# Altium integrated library Analog Devices Data Converters Digital-to-Analog Converters.IntLib: 2231 symbols (part 43 of 181)
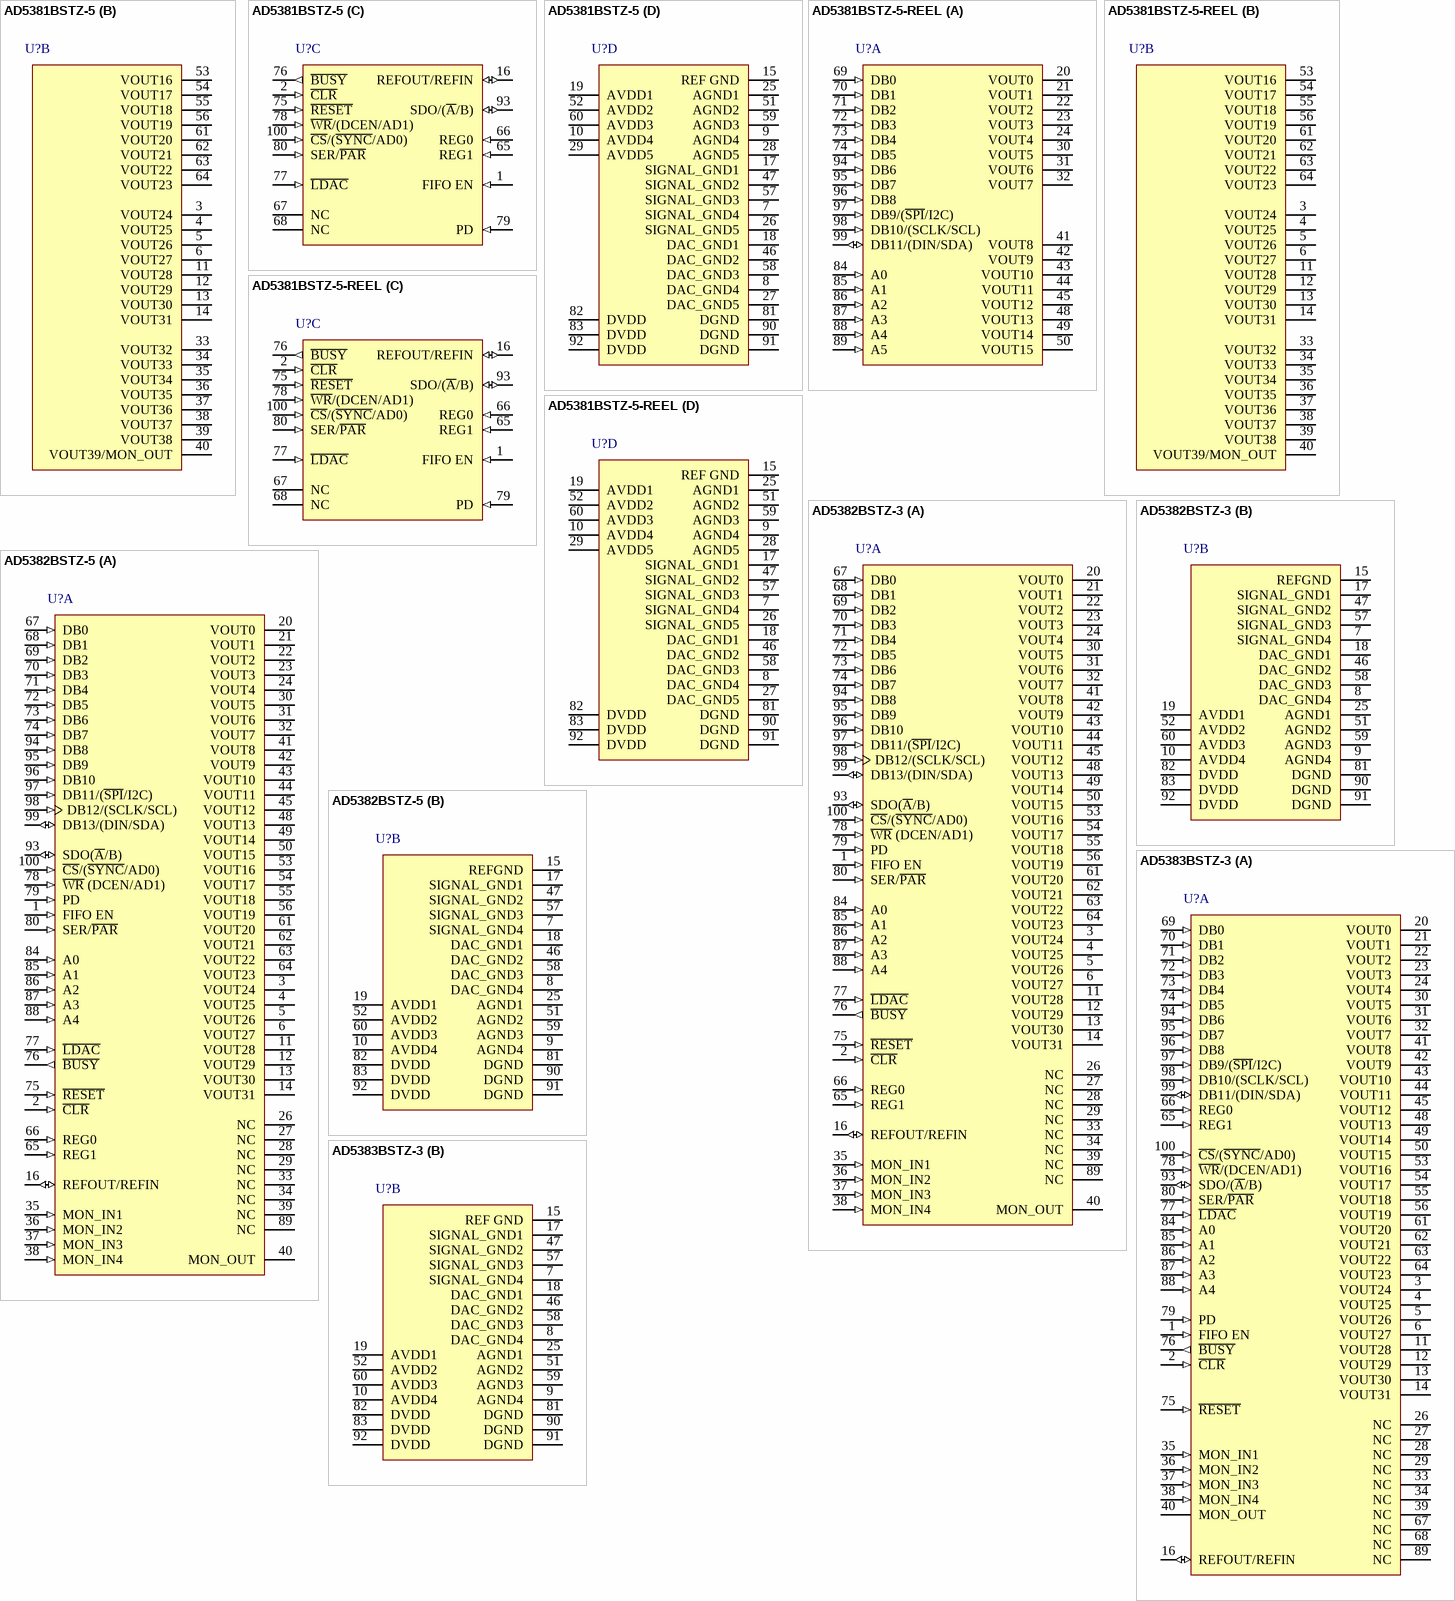
[diagram p156: symbols AD5381BSTZ-5 to AD5383BSTZ-3]

## AD5382BSTZ-3
designator U?
32 Channel 14-Bit Single-Supply Voltage Output Digital-to-Analog Converter, 3 V, -40 to +85 degC, ST-100-1, Pb-Free, Tray; Generic Part Number: AD5382; Manufacturer: Analog Devices; PartNumber: AD5382BSTZ-3; # DAC Outputs: 32; Max V+: 5.5V; Resolution (Bits): 14; Settling Time: 8µs; Single Supply: Yes; DatasheetVersion: Rev.B; PackageVersion: Jul-2007; PackageReference: ST-100-1; PackageDescription: 100-Lead Low Profile Quad Flat Package, 14 x 14 x 1.4 mm Body [LQFP]; Supplier 1: Digi-Key; Supplier Part Number 1: AD5382BSTZ-3-ND; Supplier 2: Mouser; Supplier Part Number 2: 584-AD5382BSTZ-3; Packing: Tray; RoHS: Y; Mounting Technology: Surface Mount; Code_JEDEC: MS-026-BED; ComponentLink1Description: Manufacturer URL; ComponentLink1URL: http://www.analog.com/en/index.html; ComponentLink2Description: Datasheet; ComponentLink2URL: http://www.analog.com/static/imported-files/data_sheets/AD5382.pdf; ComponentLink3Description: Package Specification; ComponentLink3URL: http://www.analog.com/static/imported-files/packages/92490886ST_100_1.pdf; ComponentLink4Description: Product URL; ComponentLink4URL: http://www.analog.com/en/digital-to-analog-converters/da-converters/ad5382/products/product.html; ComponentLink5Description: Reference Design URL; ComponentLink5URL: http://www.analog.com/en/digital-to-analog-converters/da-converters/ad5382/products/product.html#prod_cross_sell
footprint ST-100-1_V (Thin QFP, 100-Leads, Body 14x14mm, Pitch 0.5mm, AD Recommended)
footprint ST-100-1_N (Thin QFP, 100-Leads, Body 14x14mm, Pitch 0.5mm, IPC Medium Density)
footprint ST-100-1_L (Thin QFP, 100-Leads, Body 14x14mm, Pitch 0.5mm, IPC High Density)
footprint ST-100-1_M (Thin QFP, 100-Leads, Body 14x14mm, Pitch 0.5mm, IPC Low Density)
part A pins: 1 FIFO EN (in) "FIFO Enable (Level Sensitive, Active High). When connected to DVDD, the internal FIFO is enabled, allowing the user to write to the device at full speed. FIFO is available only in parallel interface mode. The status of the (See Datasheet)", 2 ~{CLR} (in) "Asynchronous Clear Input. The CLR input is falling edge sensitive. When C\L\R\ is activated, all channels are updated with the data in the C\L\R\ code register. B\U\S\Y\ is low for 35 us while all channels are being updated (See Datasheet)", 3 VOUT24 (hiz) "Buffered Analog Outputs for Channel 24. Each analog output is driven by a rail-to-rail output amplifier operating at a gain of 2. Each output is capable of driving an output load of 5 k ohm to ground. Typical output (See Datasheet)", 4 VOUT25 (hiz) "Buffered Analog Outputs for Channel 25. Each analog output is driven by a rail-to-rail output amplifier operating at a gain of 2. Each output is capable of driving an output load of 5 k ohm to ground. Typical output (See Datasheet)", 5 VOUT26 (hiz) "Buffered Analog Outputs for Channel 26. Each analog output is driven by a rail-to-rail output amplifier operating at a gain of 2. Each output is capable of driving an output load of 5 k ohm to ground. Typical output (See Datasheet)", 6 VOUT27 (hiz) "Buffered Analog Outputs for Channel 27. Each analog output is driven by a rail-to-rail output amplifier operating at a gain of 2. Each output is capable of driving an output load of 5 k ohm to ground. Typical output (See Datasheet)", 11 VOUT28 (hiz) "Buffered Analog Outputs for Channel 28. Each analog output is driven by a rail-to-rail output amplifier operating at a gain of 2. Each output is capable of driving an output load of 5 k ohm to ground. Typical output (See Datasheet)", 12 VOUT29 (hiz) "Buffered Analog Outputs for Channel 29. Each analog output is driven by a rail-to-rail output amplifier operating at a gain of 2. Each output is capable of driving an output load of 5 k ohm to ground. Typical output (See Datasheet)", 13 VOUT30 (hiz) "Buffered Analog Outputs for Channel 30. Each analog output is driven by a rail-to-rail output amplifier operating at a gain of 2. Each output is capable of driving an output load of 5 k ohm to ground. Typical output (See Datasheet)", 14 VOUT31 (hiz) "Buffered Analog Outputs for Channel 31. Each analog output is driven by a rail-to-rail output amplifier operating at a gain of 2. Each output is capable of driving an output load of 5 k ohm to ground. Typical output (See Datasheet)", 16 REFOUT/REFIN (io) "Reference Output when the Internal Reference is Selected. The AD5382 contains a common REFOUT/REFIN pin. If the application requires an external reference, it can be applied to this pin, and the internal reference can be (See Datasheet)", 20 VOUT0 (hiz) "Buffered Analog Outputs for Channel 0. Each analog output is driven by a rail-to-rail output amplifier operating at a gain of 2. Each output is capable of driving an output load of 5 k ohm to ground. Typical output impedance (See Datasheet)", 21 VOUT1 (hiz) "Buffered Analog Outputs for Channel 1. Each analog output is driven by a rail-to-rail output amplifier operating at a gain of 2. Each output is capable of driving an output load of 5 k ohm to ground. Typical output impedance (See Datasheet)", 22 VOUT2 (hiz) "Buffered Analog Outputs for Channel 2. Each analog output is driven by a rail-to-rail output amplifier operating at a gain of 2. Each output is capable of driving an output load of 5 k ohm to ground. Typical output impedance (See Datasheet)", 23 VOUT3 (hiz) "Buffered Analog Outputs for Channel 3. Each analog output is driven by a rail-to-rail output amplifier operating at a gain of 2. Each output is capable of driving an output load of 5 k ohm to ground. Typical output impedance (See Datasheet)", 24 VOUT4 (hiz) "Buffered Analog Outputs for Channel 4. Each analog output is driven by a rail-to-rail output amplifier operating at a gain of 2. Each output is capable of driving an output load of 5 k ohm to ground. Typical output impedance (See Datasheet)", 26 NC "No Connect. The user is advised not to connect any signals to these pins.", 27 NC "No Connect. The user is advised not to connect any signals to these pins.", 28 NC "No Connect. The user is advised not to connect any signals to these pins.", 29 NC "No Connect. The user is advised not to connect any signals to these pins.", 30 VOUT5 (hiz) "Buffered Analog Outputs for Channel 5. Each analog output is driven by a rail-to-rail output amplifier operating at a gain of 2. Each output is capable of driving an output load of 5 k ohm to ground. Typical output impedance (See Datasheet)", 31 VOUT6 (hiz) "Buffered Analog Outputs for Channel 6. Each analog output is driven by a rail-to-rail output amplifier operating at a gain of 2. Each output is capable of driving an output load of 5 k ohm to ground. Typical output impedance (See Datasheet)", 32 VOUT7 (hiz) "Buffered Analog Outputs for Channel 7. Each analog output is driven by a rail-to-rail output amplifier operating at a gain of 2. Each output is capable of driving an output load of 5 k ohm to ground. Typical output impedance (See Datasheet)", 33 NC "No Connect. The user is advised not to connect any signals to these pins.", 34 NC "No Connect. The user is advised not to connect any signals to these pins.", 35 MON_IN1 (in) "Monitor Input Pin. The AD5382 contains four monitor input pins that allow the user to connect input signals, within the maximum ratings of the device, to these pins for monitoring purposes. Any of the signals applied to the (See Datasheet)", 36 MON_IN2 (in) "Monitor Input Pin. The AD5382 contains four monitor input pins that allow the user to connect input signals, within the maximum ratings of the device, to these pins for monitoring purposes. Any of the signals applied to the (See Datasheet)", 37 MON_IN3 (in) "Monitor Input Pin. The AD5382 contains four monitor input pins that allow the user to connect input signals, within the maximum ratings of the device, to these pins for monitoring purposes. Any of the signals applied to the (See Datasheet)", 38 MON_IN4 (in) "Monitor Input Pin. The AD5382 contains four monitor input pins that allow the user to connect input signals, within the maximum ratings of the device, to these pins for monitoring purposes. Any of the signals applied to the (See Datasheet)", 39 NC "No Connect. The user is advised not to connect any signals to these pins.", 40 MON_OUT (hiz) "Monitor Output. When the monitor function is enabled, this pin acts as the output of a 36-to-1 channel multiplexer that can be programmed to multiplex one of Channels 0 to 31 or any of the monitor input pins (MON_IN1 to (See Datasheet)", 41 VOUT8 (hiz) "Buffered Analog Outputs for Channel 8. Each analog output is driven by a rail-to-rail output amplifier operating at a gain of 2. Each output is capable of driving an output load of 5 k ohm to ground. Typical output impedance (See Datasheet)", 42 VOUT9 (hiz) "Buffered Analog Outputs for Channel 9. Each analog output is driven by a rail-to-rail output amplifier operating at a gain of 2. Each output is capable of driving an output load of 5 k ohm to ground. Typical output impedance (See Datasheet)", 43 VOUT10 (hiz) "Buffered Analog Outputs for Channel 10. Each analog output is driven by a rail-to-rail output amplifier operating at a gain of 2. Each output is capable of driving an output load of 5 k ohm to ground. Typical output (See Datasheet)", 44 VOUT11 (hiz) "Buffered Analog Outputs for Channel 11. Each analog output is driven by a rail-to-rail output amplifier operating at a gain of 2. Each output is capable of driving an output load of 5 k ohm to ground. Typical output (See Datasheet)", 45 VOUT12 (hiz) "Buffered Analog Outputs for Channel 12. Each analog output is driven by a rail-to-rail output amplifier operating at a gain of 2. Each output is capable of driving an output load of 5 k ohm to ground. Typical output (See Datasheet)", 48 VOUT13 (hiz) "Buffered Analog Outputs for Channel 13. Each analog output is driven by a rail-to-rail output amplifier operating at a gain of 2. Each output is capable of driving an output load of 5 k ohm to ground. Typical output (See Datasheet)", 49 VOUT14 (hiz) "Buffered Analog Outputs for Channel 14. Each analog output is driven by a rail-to-rail output amplifier operating at a gain of 2. Each output is capable of driving an output load of 5 k ohm to ground. Typical output (See Datasheet)", 50 VOUT15 (hiz) "Buffered Analog Outputs for Channel 15. Each analog output is driven by a rail-to-rail output amplifier operating at a gain of 2. Each output is capable of driving an output load of 5 k ohm to ground. Typical output (See Datasheet)", 53 VOUT16 (hiz) "Buffered Analog Outputs for Channel 16. Each analog output is driven by a rail-to-rail output amplifier operating at a gain of 2. Each output is capable of driving an output load of 5 k ohm to ground. Typical output (See Datasheet)", 54 VOUT17 (hiz) "Buffered Analog Outputs for Channel 17. Each analog output is driven by a rail-to-rail output amplifier operating at a gain of 2. Each output is capable of driving an output load of 5 k ohm to ground. Typical output (See Datasheet)", 55 VOUT18 (hiz) "Buffered Analog Outputs for Channel 18. Each analog output is driven by a rail-to-rail output amplifier operating at a gain of 2. Each output is capable of driving an output load of 5 k ohm to ground. Typical output (See Datasheet)", 56 VOUT19 (hiz) "Buffered Analog Outputs for Channel 19. Each analog output is driven by a rail-to-rail output amplifier operating at a gain of 2. Each output is capable of driving an output load of 5 k ohm to ground. Typical output (See Datasheet)", 61 VOUT20 (hiz) "Buffered Analog Outputs for Channel 20. Each analog output is driven by a rail-to-rail output amplifier operating at a gain of 2. Each output is capable of driving an output load of 5 k ohm to ground. Typical output (See Datasheet)", 62 VOUT21 (hiz) "Buffered Analog Outputs for Channel 21. Each analog output is driven by a rail-to-rail output amplifier operating at a gain of 2. Each output is capable of driving an output load of 5 k ohm to ground. Typical output (See Datasheet)", 63 VOUT22 (hiz) "Buffered Analog Outputs for Channel 22. Each analog output is driven by a rail-to-rail output amplifier operating at a gain of 2. Each output is capable of driving an output load of 5 k ohm to ground. Typical output (See Datasheet)", 64 VOUT23 (hiz) "Buffered Analog Outputs for Channel 23. Each analog output is driven by a rail-to-rail output amplifier operating at a gain of 2. Each output is capable of driving an output load of 5 k ohm to ground. Typical output (See Datasheet)", 65 REG1 (in) "In parallel interface mode, REG1 is used in decoding the destination registers for the input data. REG1 is decoded to address the input data register, offset register, or gain register for the selected channel and are also (See Datasheet)", 66 REG0 (in) "In parallel interface mode, REG0 is used in decoding the destination registers for the input data. REG0 is decoded to address the input data register, offset register, or gain register for the selected channel and are also (See Datasheet)", 67 DB0 (in) "Parallel Data Bus. DB13 is the MSB and DB0 is the LSB of the input data-word on the AD5382.", 68 DB1 (in) "Parallel Data Bus. DB13 is the MSB and DB0 is the LSB of the input data-word on the AD5382.", 69 DB2 (in) "Parallel Data Bus. DB13 is the MSB and DB0 is the LSB of the input data-word on the AD5382.", 70 DB3 (in) "Parallel Data Bus. DB13 is the MSB and DB0 is the LSB of the input data-word on the AD5382.", 71 DB4 (in) "Parallel Data Bus. DB13 is the MSB and DB0 is the LSB of the input data-word on the AD5382.", 72 DB5 (in) "Parallel Data Bus. DB13 is the MSB and DB0 is the LSB of the input data-word on the AD5382.", 73 DB6 (in) "Parallel Data Bus. DB13 is the MSB and DB0 is the LSB of the input data-word on the AD5382.", 74 DB7 (in) "Parallel Data Bus. DB13 is the MSB and DB0 is the LSB of the input data-word on the AD5382.", 75 ~{RESET} (in) "Asynchronous Digital Reset Input (Falling Edge Sensitive). The function of this pin is equivalent to that of the power-on reset generator. When this pin is taken low, the state machine initiates a reset sequence to digitally (See Datasheet)", 76 ~{BUSY} (out) "Digital CMOS Output. B\U\S\Y\ goes low during internal calculations of the data (x2) loaded to the DAC data register. During this time, the user can continue writing new data to the x1, c, and m registers, but no further (See Datasheet)", 77 ~{LDAC} (in) "Load DAC Logic Input (Active Low). If L\D\A\C\ is taken low while B\U\S\Y\ is inactive (high), the contents of the input registers are transferred to the DAC registers, and the DAC outputs are updated. If L\D\A\C\ is taken (See Datasheet)", 78 ~{WR} (DCEN/AD1) (in) "Multifunction Pin. In parallel interface mode, this pin acts as write enable. In serial interface mode, this pin acts as a daisy-chain enable in SPI mode and as a hardware address pin in I2C mode.Parallel Interface Write (See Datasheet)", 79 PD (in) "Power Down (Level Sensitive, Active High). PD is used to place the device in to low power mode where the device consumes 2 uA AIDD and 20 uA DIDD. In power-down mode, all internal analog circuitry is placed in low power (See Datasheet)", 80 SER/~{PAR} (in) "Interface Select Input. This pin allows the user to select whether the serial or parallel interface is used. If it is tied high, the serial interface mode is selected and Pin 97 (S\P\I\/I2C) is used to determine if the (See Datasheet)", 84 A0 (in) "Parallel Address Inputs. A4 to A0 are decoded to address one of the AD5382’s 40 input channels. Used in conjunction with the REG1 and REG0 pins to determine the destination register for the input data.", 85 A1 (in) "Parallel Address Inputs. A4 to A0 are decoded to address one of the AD5382’s 40 input channels. Used in conjunction with the REG1 and REG0 pins to determine the destination register for the input data.", 86 A2 (in) "Parallel Address Inputs. A4 to A0 are decoded to address one of the AD5382’s 40 input channels. Used in conjunction with the REG1 and REG0 pins to determine the destination register for the input data.", 87 A3 (in) "Parallel Address Inputs. A4 to A0 are decoded to address one of the AD5382’s 40 input channels. Used in conjunction with the REG1 and REG0 pins to determine the destination register for the input data.", 88 A4 (in) "Parallel Address Inputs. A4 to A0 are decoded to address one of the AD5382’s 40 input channels. Used in conjunction with the REG1 and REG0 pins to determine the destination register for the input data.", 89 NC "No Connect. The user is advised not to connect any signals to these pins.", 93 SDO(~{A}/B) (io) "Serial Data Output in Serial Interface Mode. Three-stateable CMOS output. SDO can be used for daisy-chaining a number of devices together. Data is clocked out on SDO on the rising edge of SCLK, and is valid on the falling (See Datasheet)", 94 DB8 (in) "Parallel Data Bus. DB13 is the MSB and DB0 is the LSB of the input data-word on the AD5382.", 95 DB9 (in) "Parallel Data Bus. DB13 is the MSB and DB0 is the LSB of the input data-word on the AD5382.", 96 DB10 (in) "Parallel Data Bus. DB13 is the MSB and DB0 is the LSB of the input data-word on the AD5382.", 97 DB11/(~{SPI}/I2C) (in) "Multifunction Input Pin. In parallel interface mode, this pin acts as DB11 of the parallel input data-word. In serial interface mode, this pin acts as serial interface mode select. When serial interface mode is selected (See Datasheet)", 98 DB12/(SCLK/SCL) (in) "Multifunction Input Pin. In parallel interface mode, this pin acts as DB12 of the parallel input data-word. In serial interface mode, this pin acts as a serial clock input.Serial Interface Mode. In serial interface mode, (See Datasheet)", 99 DB13/(DIN/SDA) (io) "Multifunction Data Input Pin. In parallel interface mode, this pin acts as DB13 of the parallel input data-word.Serial Interface Mode. In serial interface mode, this pin acts as the serial data input. Data must be valid on (See Datasheet)", 100 ~{CS}/(~{SYNC}/AD0) (in) "In parallel interface mode, this pin acts as the chip select input (level sensitive, active low). When low, the AD5382 is selected.In serial interface mode, this is the frame synchronization input signal for the serial (See Datasheet)"
part B pins: 7 SIGNAL_GND4 (power) "Analog Ground Reference Points for Each Group of Eight Output Channels. All SIGNAL_GND pins are tied together internally and should be connected to the AGND plane as close as possible to the AD5382.", 8 DAC_GND4 (power) "Ground Reference point for the Internal 14-Bit DAC. Each group of eight channels contains a DAC_GND pin. These pins shound be connected to the AGND plane.", 9 AGND4 (power) "Analog Ground Reference Point. Each group of eight channels contains an AGND pin. All AGND pins should be connected externally to the AGND plane.", 10 AVDD4 (power) "Analog Supply Pins. Each group of eight channels has a separate AVDD pin. These pins are internally shorted and should be decoupled with a 0.1 uF ceramic capacitor and a 10 uF tantalum capacitor. Operating range for the (See Datasheet)", 15 REFGND (power) "Ground Reference Point for the Internal Reference.", 17 SIGNAL_GND1 (power) "Analog Ground Reference Points for Each Group of Eight Output Channels. All SIGNAL_GND pins are tied together internally and should be connected to the AGND plane as close as possible to the AD5382.", 18 DAC_GND1 (power) "Ground Reference point for the Internal 14-Bit DAC. Each group of eight channels contains a DAC_GND pin. These pins shound be connected to the AGND plane.", 19 AVDD1 (power) "Analog Supply Pins. Each group of eight channels has a separate AVDD pin. These pins are internally shorted and should be decoupled with a 0.1 uF ceramic capacitor and a 10 uF tantalum capacitor. Operating range for the (See Datasheet)", 25 AGND1 (power) "Analog Ground Reference Point. Each group of eight channels contains an AGND pin. All AGND pins should be connected externally to the AGND plane.", 46 DAC_GND2 (power) "Ground Reference point for the Internal 14-Bit DAC. Each group of eight channels contains a DAC_GND pin. These pins shound be connected to the AGND plane.", 47 SIGNAL_GND2 (power) "Analog Ground Reference Points for Each Group of Eight Output Channels. All SIGNAL_GND pins are tied together internally and should be connected to the AGND plane as close as possible to the AD5382.", 51 AGND2 (power) "Analog Ground Reference Point. Each group of eight channels contains an AGND pin. All AGND pins should be connected externally to the AGND plane.", 52 AVDD2 (power) "Analog Supply Pins. Each group of eight channels has a separate AVDD pin. These pins are internally shorted and should be decoupled with a 0.1 uF ceramic capacitor and a 10 uF tantalum capacitor. Operating range for the (See Datasheet)", 57 SIGNAL_GND3 (power) "Analog Ground Reference Points for Each Group of Eight Output Channels. All SIGNAL_GND pins are tied together internally and should be connected to the AGND plane as close as possible to the AD5382.", 58 DAC_GND3 (power) "Ground Reference point for the Internal 14-Bit DAC. Each group of eight channels contains a DAC_GND pin. These pins shound be connected to the AGND plane.", 59 AGND3 (power) "Analog Ground Reference Point. Each group of eight channels contains an AGND pin. All AGND pins should be connected externally to the AGND plane.", 60 AVDD3 (power) "Analog Supply Pins. Each group of eight channels has a separate AVDD pin. These pins are internally shorted and should be decoupled with a 0.1 uF ceramic capacitor and a 10 uF tantalum capacitor. Operating range for the (See Datasheet)", 81 DGND (power) "Ground for All Digital Circuitry.", 82 DVDD (power) "Logic Power Supply. Guaranteed operating range is 2.7 V to 5.5 V. It is recommended that these pins be decoupled with 0.1 uF ceramic and 10 uF tantalum capacitors to DGND.", 83 DVDD (power) "Logic Power Supply. Guaranteed operating range is 2.7 V to 5.5 V. It is recommended that these pins be decoupled with 0.1 uF ceramic and 10 uF tantalum capacitors to DGND.", 90 DGND (power) "Ground for All Digital Circuitry.", 91 DGND (power) "Ground for All Digital Circuitry.", 92 DVDD (power) "Logic Power Supply. Guaranteed operating range is 2.7 V to 5.5 V. It is recommended that these pins be decoupled with 0.1 uF ceramic and 10 uF tantalum capacitors to DGND."

## AD5382BSTZ-5
designator U?
32 Channel 14-Bit Single-Supply Voltage Output Digital-to-Analog Converter, 5 V, -40 to +85 degC, ST-100-1, Pb-Free, Tray; Generic Part Number: AD5382; Manufacturer: Analog Devices; PartNumber: AD5382BSTZ-5; # DAC Outputs: 32; Max V+: 5.5V; Resolution (Bits): 14; Settling Time: 8µs; Single Supply: Yes; DatasheetVersion: Rev.B; PackageVersion: Jul-2007; PackageReference: ST-100-1; PackageDescription: 100-Lead Low Profile Quad Flat Package, 14 x 14 x 1.4 mm Body [LQFP]; Supplier 1: Digi-Key; Supplier Part Number 1: AD5382BSTZ-5-ND; Supplier 2: Farnell; Supplier Part Number 2: 1078364; Supplier 3: Newark; Supplier Part Number 3: 59K4037; Supplier 4: Mouser; Supplier Part Number 4: 584-AD5382BSTZ-5; Packing: Tray; RoHS: Y; Mounting Technology: Surface Mount; Code_JEDEC: MS-026-BED; ComponentLink1Description: Manufacturer URL; ComponentLink1URL: http://www.analog.com/en/index.html; ComponentLink2Description: Datasheet; ComponentLink2URL: http://www.analog.com/static/imported-files/data_sheets/AD5382.pdf; ComponentLink3Description: Package Specification; ComponentLink3URL: http://www.analog.com/static/imported-files/packages/92490886ST_100_1.pdf; ComponentLink4Description: Product URL; ComponentLink4URL: http://www.analog.com/en/digital-to-analog-converters/da-converters/ad5382/products/product.html; ComponentLink5Description: Reference Design URL; ComponentLink5URL: http://www.analog.com/en/digital-to-analog-converters/da-converters/ad5382/products/product.html#prod_cross_sell
footprint ST-100-1_V (Thin QFP, 100-Leads, Body 14x14mm, Pitch 0.5mm, AD Recommended)
footprint ST-100-1_N (Thin QFP, 100-Leads, Body 14x14mm, Pitch 0.5mm, IPC Medium Density)
footprint ST-100-1_L (Thin QFP, 100-Leads, Body 14x14mm, Pitch 0.5mm, IPC High Density)
footprint ST-100-1_M (Thin QFP, 100-Leads, Body 14x14mm, Pitch 0.5mm, IPC Low Density)
part A pins: 1 FIFO EN (in) "FIFO Enable (Level Sensitive, Active High). When connected to DVDD, the internal FIFO is enabled, allowing the user to write to the device at full speed. FIFO is available only in parallel interface mode. The status of the (See Datasheet)", 2 ~{CLR} (in) "Asynchronous Clear Input. The CLR input is falling edge sensitive. When C\L\R\ is activated, all channels are updated with the data in the C\L\R\ code register. B\U\S\Y\ is low for 35 us while all channels are being updated (See Datasheet)", 3 VOUT24 (hiz) "Buffered Analog Outputs for Channel 24. Each analog output is driven by a rail-to-rail output amplifier operating at a gain of 2. Each output is capable of driving an output load of 5 k ohm to ground. Typical output (See Datasheet)", 4 VOUT25 (hiz) "Buffered Analog Outputs for Channel 25. Each analog output is driven by a rail-to-rail output amplifier operating at a gain of 2. Each output is capable of driving an output load of 5 k ohm to ground. Typical output (See Datasheet)", 5 VOUT26 (hiz) "Buffered Analog Outputs for Channel 26. Each analog output is driven by a rail-to-rail output amplifier operating at a gain of 2. Each output is capable of driving an output load of 5 k ohm to ground. Typical output (See Datasheet)", 6 VOUT27 (hiz) "Buffered Analog Outputs for Channel 27. Each analog output is driven by a rail-to-rail output amplifier operating at a gain of 2. Each output is capable of driving an output load of 5 k ohm to ground. Typical output (See Datasheet)", 11 VOUT28 (hiz) "Buffered Analog Outputs for Channel 28. Each analog output is driven by a rail-to-rail output amplifier operating at a gain of 2. Each output is capable of driving an output load of 5 k ohm to ground. Typical output (See Datasheet)", 12 VOUT29 (hiz) "Buffered Analog Outputs for Channel 29. Each analog output is driven by a rail-to-rail output amplifier operating at a gain of 2. Each output is capable of driving an output load of 5 k ohm to ground. Typical output (See Datasheet)", 13 VOUT30 (hiz) "Buffered Analog Outputs for Channel 30. Each analog output is driven by a rail-to-rail output amplifier operating at a gain of 2. Each output is capable of driving an output load of 5 k ohm to ground. Typical output (See Datasheet)", 14 VOUT31 (hiz) "Buffered Analog Outputs for Channel 31. Each analog output is driven by a rail-to-rail output amplifier operating at a gain of 2. Each output is capable of driving an output load of 5 k ohm to ground. Typical output (See Datasheet)", 16 REFOUT/REFIN (io) "Reference Output when the Internal Reference is Selected. The AD5382 contains a common REFOUT/REFIN pin. If the application requires an external reference, it can be applied to this pin, and the internal reference can be (See Datasheet)", 20 VOUT0 (hiz) "Buffered Analog Outputs for Channel 0. Each analog output is driven by a rail-to-rail output amplifier operating at a gain of 2. Each output is capable of driving an output load of 5 k ohm to ground. Typical output impedance (See Datasheet)", 21 VOUT1 (hiz) "Buffered Analog Outputs for Channel 1. Each analog output is driven by a rail-to-rail output amplifier operating at a gain of 2. Each output is capable of driving an output load of 5 k ohm to ground. Typical output impedance (See Datasheet)", 22 VOUT2 (hiz) "Buffered Analog Outputs for Channel 2. Each analog output is driven by a rail-to-rail output amplifier operating at a gain of 2. Each output is capable of driving an output load of 5 k ohm to ground. Typical output impedance (See Datasheet)", 23 VOUT3 (hiz) "Buffered Analog Outputs for Channel 3. Each analog output is driven by a rail-to-rail output amplifier operating at a gain of 2. Each output is capable of driving an output load of 5 k ohm to ground. Typical output impedance (See Datasheet)", 24 VOUT4 (hiz) "Buffered Analog Outputs for Channel 4. Each analog output is driven by a rail-to-rail output amplifier operating at a gain of 2. Each output is capable of driving an output load of 5 k ohm to ground. Typical output impedance (See Datasheet)", 26 NC "No Connect. The user is advised not to connect any signals to these pins.", 27 NC "No Connect. The user is advised not to connect any signals to these pins.", 28 NC "No Connect. The user is advised not to connect any signals to these pins.", 29 NC "No Connect. The user is advised not to connect any signals to these pins.", 30 VOUT5 (hiz) "Buffered Analog Outputs for Channel 5. Each analog output is driven by a rail-to-rail output amplifier operating at a gain of 2. Each output is capable of driving an output load of 5 k ohm to ground. Typical output impedance (See Datasheet)", 31 VOUT6 (hiz) "Buffered Analog Outputs for Channel 6. Each analog output is driven by a rail-to-rail output amplifier operating at a gain of 2. Each output is capable of driving an output load of 5 k ohm to ground. Typical output impedance (See Datasheet)", 32 VOUT7 (hiz) "Buffered Analog Outputs for Channel 7. Each analog output is driven by a rail-to-rail output amplifier operating at a gain of 2. Each output is capable of driving an output load of 5 k ohm to ground. Typical output impedance (See Datasheet)", 33 NC "No Connect. The user is advised not to connect any signals to these pins.", 34 NC "No Connect. The user is advised not to connect any signals to these pins.", 35 MON_IN1 (in) "Monitor Input Pin. The AD5382 contains four monitor input pins that allow the user to connect input signals, within the maximum ratings of the device, to these pins for monitoring purposes. Any of the signals applied to the (See Datasheet)", 36 MON_IN2 (in) "Monitor Input Pin. The AD5382 contains four monitor input pins that allow the user to connect input signals, within the maximum ratings of the device, to these pins for monitoring purposes. Any of the signals applied to the (See Datasheet)", 37 MON_IN3 (in) "Monitor Input Pin. The AD5382 contains four monitor input pins that allow the user to connect input signals, within the maximum ratings of the device, to these pins for monitoring purposes. Any of the signals applied to the (See Datasheet)", 38 MON_IN4 (in) "Monitor Input Pin. The AD5382 contains four monitor input pins that allow the user to connect input signals, within the maximum ratings of the device, to these pins for monitoring purposes. Any of the signals applied to the (See Datasheet)", 39 NC "No Connect. The user is advised not to connect any signals to these pins.", 40 MON_OUT (hiz) "Monitor Output. When the monitor function is enabled, this pin acts as the output of a 36-to-1 channel multiplexer that can be programmed to multiplex one of Channels 0 to 31 or any of the monitor input pins (MON_IN1 to (See Datasheet)", 41 VOUT8 (hiz) "Buffered Analog Outputs for Channel 8. Each analog output is driven by a rail-to-rail output amplifier operating at a gain of 2. Each output is capable of driving an output load of 5 k ohm to ground. Typical output impedance (See Datasheet)", 42 VOUT9 (hiz) "Buffered Analog Outputs for Channel 9. Each analog output is driven by a rail-to-rail output amplifier operating at a gain of 2. Each output is capable of driving an output load of 5 k ohm to ground. Typical output impedance (See Datasheet)", 43 VOUT10 (hiz) "Buffered Analog Outputs for Channel 10. Each analog output is driven by a rail-to-rail output amplifier operating at a gain of 2. Each output is capable of driving an output load of 5 k ohm to ground. Typical output (See Datasheet)", 44 VOUT11 (hiz) "Buffered Analog Outputs for Channel 11. Each analog output is driven by a rail-to-rail output amplifier operating at a gain of 2. Each output is capable of driving an output load of 5 k ohm to ground. Typical output (See Datasheet)", 45 VOUT12 (hiz) "Buffered Analog Outputs for Channel 12. Each analog output is driven by a rail-to-rail output amplifier operating at a gain of 2. Each output is capable of driving an output load of 5 k ohm to ground. Typical output (See Datasheet)", 48 VOUT13 (hiz) "Buffered Analog Outputs for Channel 13. Each analog output is driven by a rail-to-rail output amplifier operating at a gain of 2. Each output is capable of driving an output load of 5 k ohm to ground. Typical output (See Datasheet)", 49 VOUT14 (hiz) "Buffered Analog Outputs for Channel 14. Each analog output is driven by a rail-to-rail output amplifier operating at a gain of 2. Each output is capable of driving an output load of 5 k ohm to ground. Typical output (See Datasheet)", 50 VOUT15 (hiz) "Buffered Analog Outputs for Channel 15. Each analog output is driven by a rail-to-rail output amplifier operating at a gain of 2. Each output is capable of driving an output load of 5 k ohm to ground. Typical output (See Datasheet)", 53 VOUT16 (hiz) "Buffered Analog Outputs for Channel 16. Each analog output is driven by a rail-to-rail output amplifier operating at a gain of 2. Each output is capable of driving an output load of 5 k ohm to ground. Typical output (See Datasheet)", 54 VOUT17 (hiz) "Buffered Analog Outputs for Channel 17. Each analog output is driven by a rail-to-rail output amplifier operating at a gain of 2. Each output is capable of driving an output load of 5 k ohm to ground. Typical output (See Datasheet)", 55 VOUT18 (hiz) "Buffered Analog Outputs for Channel 18. Each analog output is driven by a rail-to-rail output amplifier operating at a gain of 2. Each output is capable of driving an output load of 5 k ohm to ground. Typical output (See Datasheet)", 56 VOUT19 (hiz) "Buffered Analog Outputs for Channel 19. Each analog output is driven by a rail-to-rail output amplifier operating at a gain of 2. Each output is capable of driving an output load of 5 k ohm to ground. Typical output (See Datasheet)", 61 VOUT20 (hiz) "Buffered Analog Outputs for Channel 20. Each analog output is driven by a rail-to-rail output amplifier operating at a gain of 2. Each output is capable of driving an output load of 5 k ohm to ground. Typical output (See Datasheet)", 62 VOUT21 (hiz) "Buffered Analog Outputs for Channel 21. Each analog output is driven by a rail-to-rail output amplifier operating at a gain of 2. Each output is capable of driving an output load of 5 k ohm to ground. Typical output (See Datasheet)", 63 VOUT22 (hiz) "Buffered Analog Outputs for Channel 22. Each analog output is driven by a rail-to-rail output amplifier operating at a gain of 2. Each output is capable of driving an output load of 5 k ohm to ground. Typical output (See Datasheet)", 64 VOUT23 (hiz) "Buffered Analog Outputs for Channel 23. Each analog output is driven by a rail-to-rail output amplifier operating at a gain of 2. Each output is capable of driving an output load of 5 k ohm to ground. Typical output (See Datasheet)", 65 REG1 (in) "In parallel interface mode, REG1 is used in decoding the destination registers for the input data. REG1 is decoded to address the input data register, offset register, or gain register for the selected channel and are also (See Datasheet)", 66 REG0 (in) "In parallel interface mode, REG0 is used in decoding the destination registers for the input data. REG0 is decoded to address the input data register, offset register, or gain register for the selected channel and are also (See Datasheet)", 67 DB0 (in) "Parallel Data Bus. DB13 is the MSB and DB0 is the LSB of the input data-word on the AD5382.", 68 DB1 (in) "Parallel Data Bus. DB13 is the MSB and DB0 is the LSB of the input data-word on the AD5382.", 69 DB2 (in) "Parallel Data Bus. DB13 is the MSB and DB0 is the LSB of the input data-word on the AD5382.", 70 DB3 (in) "Parallel Data Bus. DB13 is the MSB and DB0 is the LSB of the input data-word on the AD5382.", 71 DB4 (in) "Parallel Data Bus. DB13 is the MSB and DB0 is the LSB of the input data-word on the AD5382.", 72 DB5 (in) "Parallel Data Bus. DB13 is the MSB and DB0 is the LSB of the input data-word on the AD5382.", 73 DB6 (in) "Parallel Data Bus. DB13 is the MSB and DB0 is the LSB of the input data-word on the AD5382.", 74 DB7 (in) "Parallel Data Bus. DB13 is the MSB and DB0 is the LSB of the input data-word on the AD5382.", 75 ~{RESET} (in) "Asynchronous Digital Reset Input (Falling Edge Sensitive). The function of this pin is equivalent to that of the power-on reset generator. When this pin is taken low, the state machine initiates a reset sequence to digitally (See Datasheet)", 76 ~{BUSY} (out) "Digital CMOS Output. B\U\S\Y\ goes low during internal calculations of the data (x2) loaded to the DAC data register. During this time, the user can continue writing new data to the x1, c, and m registers, but no further (See Datasheet)", 77 ~{LDAC} (in) "Load DAC Logic Input (Active Low). If L\D\A\C\ is taken low while B\U\S\Y\ is inactive (high), the contents of the input registers are transferred to the DAC registers, and the DAC outputs are updated. If L\D\A\C\ is taken (See Datasheet)", 78 ~{WR} (DCEN/AD1) (in) "Multifunction Pin. In parallel interface mode, this pin acts as write enable. In serial interface mode, this pin acts as a daisy-chain enable in SPI mode and as a hardware address pin in I2C mode.Parallel Interface Write (See Datasheet)", 79 PD (in) "Power Down (Level Sensitive, Active High). PD is used to place the device in to low power mode where the device consumes 2 uA AIDD and 20 uA DIDD. In power-down mode, all internal analog circuitry is placed in low power (See Datasheet)", 80 SER/~{PAR} (in) "Interface Select Input. This pin allows the user to select whether the serial or parallel interface is used. If it is tied high, the serial interface mode is selected and Pin 97 (S\P\I\/I2C) is used to determine if the (See Datasheet)", 84 A0 (in) "Parallel Address Inputs. A4 to A0 are decoded to address one of the AD5382’s 40 input channels. Used in conjunction with the REG1 and REG0 pins to determine the destination register for the input data.", 85 A1 (in) "Parallel Address Inputs. A4 to A0 are decoded to address one of the AD5382’s 40 input channels. Used in conjunction with the REG1 and REG0 pins to determine the destination register for the input data.", 86 A2 (in) "Parallel Address Inputs. A4 to A0 are decoded to address one of the AD5382’s 40 input channels. Used in conjunction with the REG1 and REG0 pins to determine the destination register for the input data.", 87 A3 (in) "Parallel Address Inputs. A4 to A0 are decoded to address one of the AD5382’s 40 input channels. Used in conjunction with the REG1 and REG0 pins to determine the destination register for the input data.", 88 A4 (in) "Parallel Address Inputs. A4 to A0 are decoded to address one of the AD5382’s 40 input channels. Used in conjunction with the REG1 and REG0 pins to determine the destination register for the input data.", 89 NC "No Connect. The user is advised not to connect any signals to these pins.", 93 SDO(~{A}/B) (io) "Serial Data Output in Serial Interface Mode. Three-stateable CMOS output. SDO can be used for daisy-chaining a number of devices together. Data is clocked out on SDO on the rising edge of SCLK, and is valid on the falling (See Datasheet)", 94 DB8 (in) "Parallel Data Bus. DB13 is the MSB and DB0 is the LSB of the input data-word on the AD5382.", 95 DB9 (in) "Parallel Data Bus. DB13 is the MSB and DB0 is the LSB of the input data-word on the AD5382.", 96 DB10 (in) "Parallel Data Bus. DB13 is the MSB and DB0 is the LSB of the input data-word on the AD5382.", 97 DB11/(~{SPI}/I2C) (in) "Multifunction Input Pin. In parallel interface mode, this pin acts as DB11 of the parallel input data-word. In serial interface mode, this pin acts as serial interface mode select. When serial interface mode is selected (See Datasheet)", 98 DB12/(SCLK/SCL) (in) "Multifunction Input Pin. In parallel interface mode, this pin acts as DB12 of the parallel input data-word. In serial interface mode, this pin acts as a serial clock input.Serial Interface Mode. In serial interface mode, (See Datasheet)", 99 DB13/(DIN/SDA) (io) "Multifunction Data Input Pin. In parallel interface mode, this pin acts as DB13 of the parallel input data-word.Serial Interface Mode. In serial interface mode, this pin acts as the serial data input. Data must be valid on (See Datasheet)", 100 ~{CS}/(~{SYNC}/AD0) (in) "In parallel interface mode, this pin acts as the chip select input (level sensitive, active low). When low, the AD5382 is selected.In serial interface mode, this is the frame synchronization input signal for the serial (See Datasheet)"
part B pins: 7 SIGNAL_GND4 (power) "Analog Ground Reference Points for Each Group of Eight Output Channels. All SIGNAL_GND pins are tied together internally and should be connected to the AGND plane as close as possible to the AD5382.", 8 DAC_GND4 (power) "Ground Reference point for the Internal 14-Bit DAC. Each group of eight channels contains a DAC_GND pin. These pins shound be connected to the AGND plane.", 9 AGND4 (power) "Analog Ground Reference Point. Each group of eight channels contains an AGND pin. All AGND pins should be connected externally to the AGND plane.", 10 AVDD4 (power) "Analog Supply Pins. Each group of eight channels has a separate AVDD pin. These pins are internally shorted and should be decoupled with a 0.1 uF ceramic capacitor and a 10 uF tantalum capacitor. Operating range for the (See Datasheet)", 15 REFGND (power) "Ground Reference Point for the Internal Reference.", 17 SIGNAL_GND1 (power) "Analog Ground Reference Points for Each Group of Eight Output Channels. All SIGNAL_GND pins are tied together internally and should be connected to the AGND plane as close as possible to the AD5382.", 18 DAC_GND1 (power) "Ground Reference point for the Internal 14-Bit DAC. Each group of eight channels contains a DAC_GND pin. These pins shound be connected to the AGND plane.", 19 AVDD1 (power) "Analog Supply Pins. Each group of eight channels has a separate AVDD pin. These pins are internally shorted and should be decoupled with a 0.1 uF ceramic capacitor and a 10 uF tantalum capacitor. Operating range for the (See Datasheet)", 25 AGND1 (power) "Analog Ground Reference Point. Each group of eight channels contains an AGND pin. All AGND pins should be connected externally to the AGND plane.", 46 DAC_GND2 (power) "Ground Reference point for the Internal 14-Bit DAC. Each group of eight channels contains a DAC_GND pin. These pins shound be connected to the AGND plane.", 47 SIGNAL_GND2 (power) "Analog Ground Reference Points for Each Group of Eight Output Channels. All SIGNAL_GND pins are tied together internally and should be connected to the AGND plane as close as possible to the AD5382.", 51 AGND2 (power) "Analog Ground Reference Point. Each group of eight channels contains an AGND pin. All AGND pins should be connected externally to the AGND plane.", 52 AVDD2 (power) "Analog Supply Pins. Each group of eight channels has a separate AVDD pin. These pins are internally shorted and should be decoupled with a 0.1 uF ceramic capacitor and a 10 uF tantalum capacitor. Operating range for the (See Datasheet)", 57 SIGNAL_GND3 (power) "Analog Ground Reference Points for Each Group of Eight Output Channels. All SIGNAL_GND pins are tied together internally and should be connected to the AGND plane as close as possible to the AD5382.", 58 DAC_GND3 (power) "Ground Reference point for the Internal 14-Bit DAC. Each group of eight channels contains a DAC_GND pin. These pins shound be connected to the AGND plane.", 59 AGND3 (power) "Analog Ground Reference Point. Each group of eight channels contains an AGND pin. All AGND pins should be connected externally to the AGND plane.", 60 AVDD3 (power) "Analog Supply Pins. Each group of eight channels has a separate AVDD pin. These pins are internally shorted and should be decoupled with a 0.1 uF ceramic capacitor and a 10 uF tantalum capacitor. Operating range for the (See Datasheet)", 81 DGND (power) "Ground for All Digital Circuitry.", 82 DVDD (power) "Logic Power Supply. Guaranteed operating range is 2.7 V to 5.5 V. It is recommended that these pins be decoupled with 0.1 uF ceramic and 10 uF tantalum capacitors to DGND.", 83 DVDD (power) "Logic Power Supply. Guaranteed operating range is 2.7 V to 5.5 V. It is recommended that these pins be decoupled with 0.1 uF ceramic and 10 uF tantalum capacitors to DGND.", 90 DGND (power) "Ground for All Digital Circuitry.", 91 DGND (power) "Ground for All Digital Circuitry.", 92 DVDD (power) "Logic Power Supply. Guaranteed operating range is 2.7 V to 5.5 V. It is recommended that these pins be decoupled with 0.1 uF ceramic and 10 uF tantalum capacitors to DGND."